# Altium footprint library MOD-ESP32-Wrover-IE-N16R8.PcbLib: 1 footprints
Each footprint in its own frame and in the unit in brackets; x right, y up, seen from the top. Pads: shape width x height; smd on the part's side, far side on the other; paste and mask are expansions set on the pad; w line width, h text height; cw(c..) or ccw(c..) is an arc to the next point about the centre after c.
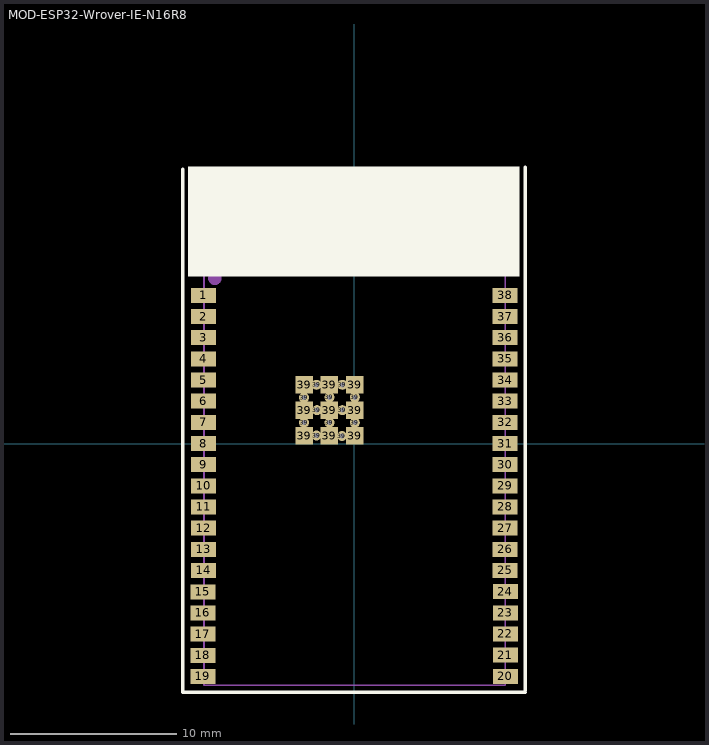
[diagram p0: the footprint, top view; thin cyan lines are the x and y axes]

## MOD-ESP32-Wrover-IE-N16R8 [mm]
pads (59):
  rect 1.5x0.9 smd paste+0 mask+0.05: 1(-9.05,8.89) 2(-9.05,7.62) 3(-9.05,6.35) 4(-9.05,5.08) 5(-9.05,3.81) 6(-9.05,2.54) 7(-9.05,1.27) 8(-9.05,0) 9(-9.05,-1.27) 10(-9.05,-2.54) 11(-9.05,-3.81) 12(-9.05,-5.08) 13(-9.05,-6.35) 14(-9.05,-7.62) 15(-9.1,-8.9) 16(-9.1,-10.17) 17(-9.1,-11.44) 18(-9.1,-12.71) 19(-9.1,-13.98) 20(9.06,-13.97) 21(9.06,-12.7) 22(9.06,-11.43) 23(9.06,-10.16) 24(9.06,-8.89) 25(9.05,-7.62) 26(9.05,-6.35) 27(9.05,-5.08) 28(9.05,-3.81) 29(9.05,-2.54) 30(9.05,-1.27) 31(9.05,0) 32(9.05,1.27) 33(9.05,2.54) 34(9.05,3.81) 35(9.05,5.08) 36(9.05,6.35) 37(9.05,7.62) 38(9.05,8.89)
  rect 1.05x1.05 smd paste+0 mask+0.05: 39(-3.025,0.475) 39(-3.025,2) 39(-3.025,3.525) 39(-1.5,0.475) 39(-1.5,2) 39(-1.5,3.525) 39(0.025,0.475) 39(0.025,2) 39(0.025,3.525)
  round 0.6 hole 0.3: 39(-3.025,1.25) 39(-3.025,2.75) 39(-2.275,0.475) 39(-2.275,3.525) 39(-2.25,2) 39(-1.5,1.25) 39(-1.5,2.775) 39(-0.75,0.45) 39(-0.725,2) 39(-0.725,3.525) 39(0.025,1.25) 39(0.025,2.775)
Top Overlay:
  region: -9.999,16.617 -9.999,10.017 9.901,10.017 9.901,16.617
  lines w0.2: -10.3,16.475 -10.3,-14.925 10.25,-14.925 ; 10.25,-14.825 10.25,16.575
Top Assembly:
  circle w0.6: c-8.375,9.915 r0.1
  lines w0.1: 9.05,10.415 -9.025,10.415 -9.025,16.365 ; -9.025,16.365 9.05,16.365 9.05,-14.5 -9.025,-14.5 -9.025,16.365
  text "'.Designator'" at 0.1,0.367 h0.8
3D body: height 0.25, standoff 0, extent -9.035,-14.5 9.035,16.38